# Altium footprint library PUI Audio Transducers.PcbLib: 1 footprints
Each footprint in its own frame and in the unit in brackets; x right, y up, seen from the top. Pads: shape width x height; smd on the part's side, far side on the other; paste and mask are expansions set on the pad; w line width, h text height; cw(c..) or ccw(c..) is an arc to the next point about the centre after c.
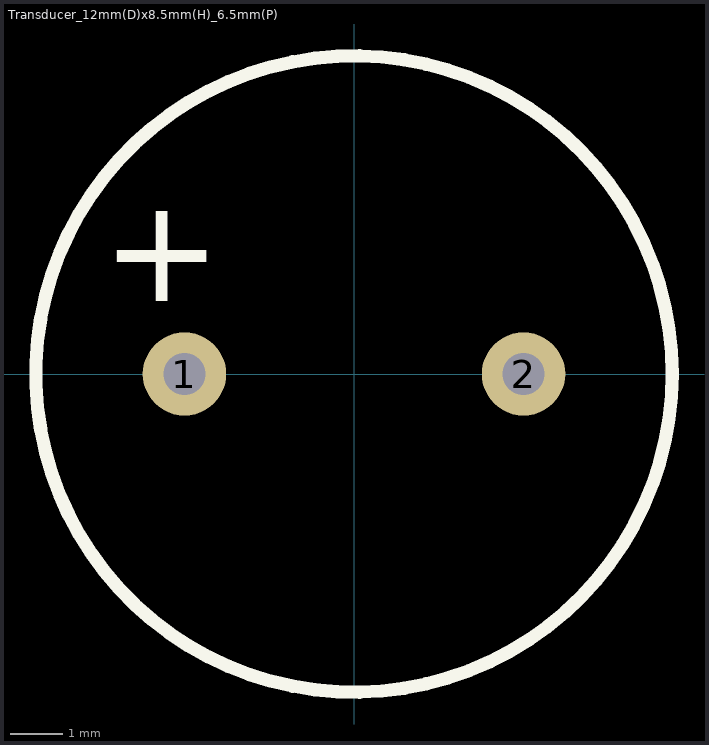
[diagram p0: the footprint, top view; thin cyan lines are the x and y axes]

## Transducer_12mm(D)x8.5mm(H)_6.5mm(P) [mm] "Transducer, Body Dia 12.00mm, Height 8.7mm (max), 6.5mm Pitch"
height 8.7
pads (2):
  round 1.6 hole 0.8: 1(-3.25,0) 2(3.25,0)
Top Overlay:
  circle w0.254: c0,0 r6.1
  text "+" at -2.54,1.397 h2